# Altium schematic symbol library Inductor2.Schlib: 1 symbol
Pins are listed as number, name and electrical type; pins without a type are passive.

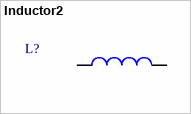
[diagram p0: symbol Inductor2]

## Inductor2
designator L?
pins: 1, 2